# Altium footprint library DFN65P101X53-3N.PcbLib: 1 footprints
Each footprint in its own frame and in the unit in brackets; x right, y up, seen from the top. Pads: shape width x height; smd on the part's side, far side on the other; paste and mask are expansions set on the pad; w line width, h text height; cw(c..) or ccw(c..) is an arc to the next point about the centre after c.
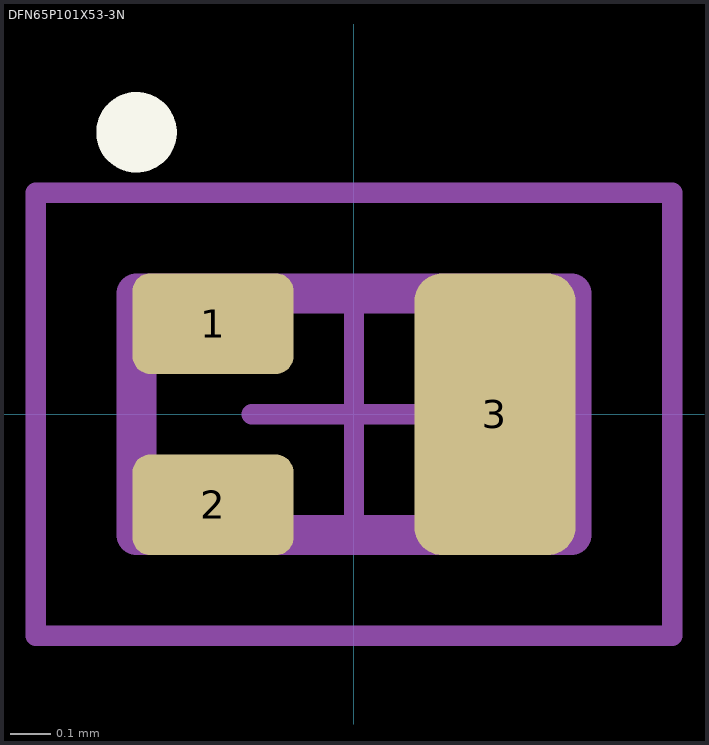
[diagram p0: the footprint, top view; thin cyan lines are the x and y axes]

## DFN65P101X53-3N [mm] "DFN, 3-Leads, Body 0.57x1.01mm, Pitch 0.65mm, IPC Medium Density"
height 0.53
pads (3):
  rrect35% 0.4x0.25 smd: 1(-0.35,0.225) 2(-0.35,-0.225)
  rrect35% 0.4x0.7 smd: 3(0.35,0)
Top Overlay:
  circle w0.1: c-0.54,0.7 r0.05
Top Assembly:
  lines w0.1: -0.54,-0.3 -0.54,0.3 0.54,0.3 0.54,-0.3 -0.54,-0.3
Top Courtyard:
  lines w0.05: -0.254,0 0.254,0 ; 0,-0.254 0,0.254 ; -0.79,-0.55 -0.79,0.55 0.79,0.55 0.79,-0.55 -0.79,-0.55
3D body "DFN65P101X53-3N.step": height 0.53, standoff 0, extent -0.537,-0.3 0.537,0.3